# Altium footprint library 2020-11-26_01-51-47.PcbLib: 3 footprints
Each footprint in its own frame and in the unit in brackets; x right, y up, seen from the top. Pads: shape width x height; smd on the part's side, far side on the other; paste and mask are expansions set on the pad; w line width, h text height; cw(c..) or ccw(c..) is an arc to the next point about the centre after c.
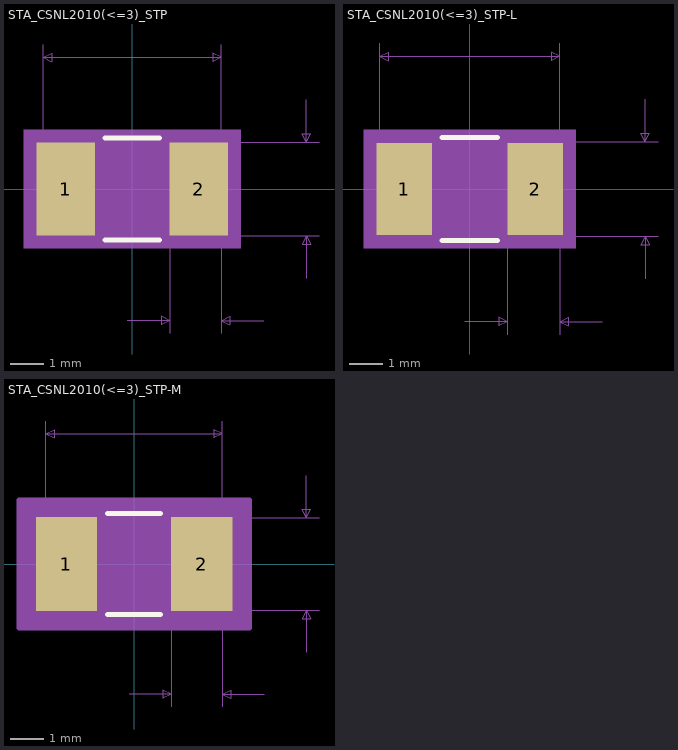
[diagram p0: the footprints below, top view; thin cyan lines are the x and y axes]

## STA_CSNL2010(<=3)_STP [mil]
pads (2):
  rect 69x110 smd paste+0 mask+0: 1(-78.5,0) 2(78.5,0)
Top Overlay:
  lines w6: -31.89,-60 31.89,-60 ; -31.89,60 31.89,60
Mechanical 5:
  region: 128,-70 -128,-70 -128,70 128,70
Mechanical 7:
  lines w1: -105,0 -105,170 ; -6,-155 44,-155 ; 0,-55 220,-55 ; 0,55 220,55 ; 44,-170 44,0 ; 105,-170 105,0 105,170 ; 155,-155 105,-155 ; 205,-105 205,-55 ; 205,105 205,55 ; -105,155 105,155 ; -105,155 -95,160 -95,150 -105,155 ; 44,-155 34,-150 34,-160 44,-155 ; 105,-155 115,-150 115,-160 105,-155 ; 105,155 95,160 95,150 105,155 ; 205,-55 200,-65 210,-65 205,-55 ; 205,55 200,65 210,65 205,55
  text "Default Padstyle: RX69Y110D0T" at -362.5,-325 h50
  text "Alt 1 Padstyle: OX60Y90D30P" at -337.5,-385 h50
  text "Alt 2 Padstyle: OX90Y60D30P" at -337.5,-445 h50
  text "0.11in/2.794mm" at 225,-12.5 h25
  text "0.21in/5.334mm" at -87.5,175 h25
  text "0.061in/1.549mm" at -19.25,-200 h25
Mechanical 13:
  lines w1: -105,-55 -105,55 ; -105,-55 -44,-55 -44,55 -105,55 ; -105,-55 105,-55 ; -105,-55 -105,55 ; -105,55 105,55 ; 105,-55 44,-55 44,55 105,55 ; 105,-55 105,55 ; 105,-55 105,55
Mechanical 15:
  region: 123,-65 -123,-65 -123,65 123,65
  lines w6: -123,-65 -123,65 123,65 123,-65 -123,-65
3D body: height 10, standoff 0, extent 0,0 10,10

## STA_CSNL2010(<=3)_STP-L [mil]
pads (2):
  rect 65x108 smd paste+0 mask+0: 1(-76.5,0) 2(76.5,0)
Top Overlay:
  lines w6: -32.35,-60 32.35,-60 ; -32.35,60 32.35,60
Mechanical 5:
  region: 124,-69 -124,-69 -124,69 124,69
Mechanical 7:
  lines w1: -105,0 -105,170 ; -6,-155 44,-155 ; 0,-55 220,-55 ; 0,55 220,55 ; 44,-170 44,0 ; 105,-170 105,0 105,170 ; 155,-155 105,-155 ; 205,-105 205,-55 ; 205,105 205,55 ; -105,155 105,155 ; -105,155 -95,160 -95,150 -105,155 ; 44,-155 34,-150 34,-160 44,-155 ; 105,-155 115,-150 115,-160 105,-155 ; 105,155 95,160 95,150 105,155 ; 205,-55 200,-65 210,-65 205,-55 ; 205,55 200,65 210,65 205,55
  text "Default Padstyle: RX65Y108D0T" at -362.5,-324 h50
  text "Alt 1 Padstyle: OX60Y90D30P" at -337.5,-384 h50
  text "Alt 2 Padstyle: OX90Y60D30P" at -337.5,-444 h50
  text "0.11in/2.794mm" at 225,-12.5 h25
  text "0.21in/5.334mm" at -87.5,175 h25
  text "0.061in/1.549mm" at -19.25,-200 h25
Mechanical 13:
  lines w1: -105,-55 -105,55 ; -105,-55 -44,-55 -44,55 -105,55 ; -105,-55 105,-55 ; -105,-55 -105,55 ; -105,55 105,55 ; 105,-55 44,-55 44,55 105,55 ; 105,-55 105,55 ; 105,-55 105,55
Mechanical 15:
  region: 113,-58 -113,-58 -113,58 113,58
  lines w6: -113,-58 -113,58 113,58 113,-58 -113,-58
3D body: height 10, standoff 0, extent 0,0 10,10

## STA_CSNL2010(<=3)_STP-M [mil]
pads (2):
  rect 73x112 smd paste+0 mask+0: 1(-80.5,0) 2(80.5,0)
Top Overlay:
  lines w6: -31.53,-60 31.53,-60 ; -31.53,60 31.53,60
Mechanical 5:
  region: 132,-71 -132,-71 -132,71 132,71
Mechanical 7:
  lines w1: -105,0 -105,170 ; -6,-155 44,-155 ; 0,-55 220,-55 ; 0,55 220,55 ; 44,-170 44,0 ; 105,-170 105,0 105,170 ; 155,-155 105,-155 ; 205,-105 205,-55 ; 205,105 205,55 ; -105,155 105,155 ; -105,155 -95,160 -95,150 -105,155 ; 44,-155 34,-150 34,-160 44,-155 ; 105,-155 115,-150 115,-160 105,-155 ; 105,155 95,160 95,150 105,155 ; 205,-55 200,-65 210,-65 205,-55 ; 205,55 200,65 210,65 205,55
  text "Default Padstyle: RX73Y112D0T" at -362.5,-326 h50
  text "Alt 1 Padstyle: OX60Y90D30P" at -337.5,-386 h50
  text "Alt 2 Padstyle: OX90Y60D30P" at -337.5,-446 h50
  text "0.11in/2.794mm" at 225,-12.5 h25
  text "0.21in/5.334mm" at -87.5,175 h25
  text "0.061in/1.549mm" at -19.25,-200 h25
Mechanical 13:
  lines w1: -105,-55 -105,55 ; -105,-55 -44,-55 -44,55 -105,55 ; -105,-55 105,-55 ; -105,-55 -105,55 ; -105,55 105,55 ; 105,-55 44,-55 44,55 105,55 ; 105,-55 105,55 ; 105,-55 105,55
Mechanical 15:
  region: 137,-76 -137,-76 -137,76 137,76
  lines w6: -137,-76 -137,76 137,76 137,-76 -137,-76
3D body: height 10, standoff 0, extent 0,0 10,10